# EAGLE library part HN1C01FU (library transistors)
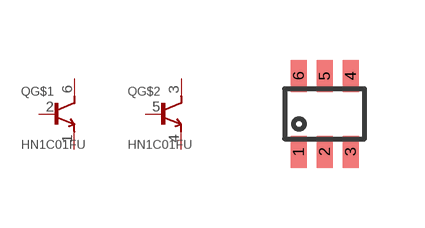
[diagram p1: symbol with the pads of SOT-363; footprint SOT-363]

Designator prefix Q; gates G$1=T_NPN G$2=T_NPN

## HN1C01FU  [SOT-363]
1  G$1:E
2  G$1:B
3  G$2:C
4  G$2:E
5  G$2:B
6  G$1:C

## Footprint SOT-363 (pad centres in mm)
smd 0.4 x 0.8: 1 -0.65,-0.95; 2 0,-0.95; 3 0.65,-0.95; 4 0.65,0.95; 5 0,0.95; 6 -0.65,0.95